# Altium footprint library DisplayPCB.PcbLib: 1 footprints
Each footprint in its own frame and in the unit in brackets; x right, y up, seen from the top. Pads: shape width x height; smd on the part's side, far side on the other; paste and mask are expansions set on the pad; w line width, h text height; cw(c..) or ccw(c..) is an arc to the next point about the centre after c.
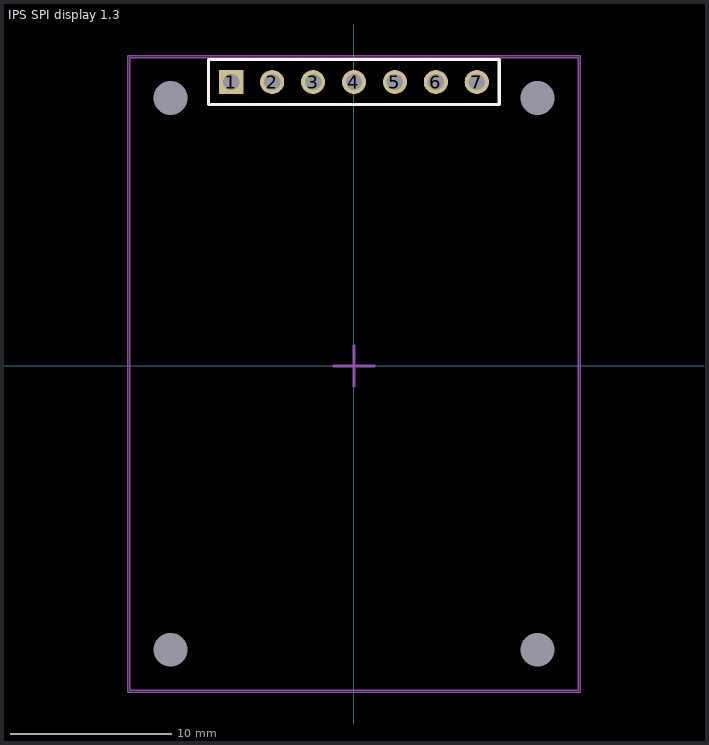
[diagram p0: the footprint, top view; thin cyan lines are the x and y axes]

## IPS SPI display 1.3 [mm]
pads (11):
  rect 1.5x1.5 hole 1.02: 1(-7.62,17.61)
  round 1.5 hole 1.02: 2(-5.08,17.61) 3(-2.54,17.61) 4(0,17.61) 5(2.54,17.61) 6(5.08,17.61) 7(7.62,17.61)
  round 0 hole 2.1 unplated: ""(-11.39,-17.61) ""(-11.39,16.61) ""(11.39,-17.61) ""(11.39,16.61)
Top Overlay:
  lines w0.2: -9.02,16.21 9.005,16.21 9.005,19.01 -9.02,19.01 -9.02,16.21
Top Assy:
  lines w0.1: -13.9,-20.115 13.9,-20.115 13.9,19.11 -13.9,19.11 -13.9,-20.115
Border:
  lines w0.1: -14.025,-20.24 -14.025,19.235 14.025,19.235 14.025,-20.24 -14.025,-20.24
  lines w0.2: -1.25,0 1.25,0 ; 0,-1.25 0,1.25
3D body "1.3 TFT IPS - Module.stp": height 5.6, standoff -5.9, extent -13.89,-20.11 13.89,19.11